# Altium schematic symbol library Connectors_Headers.SchLib: 50 symbols
Pins are listed as number, name and electrical type; pins without a type are passive.

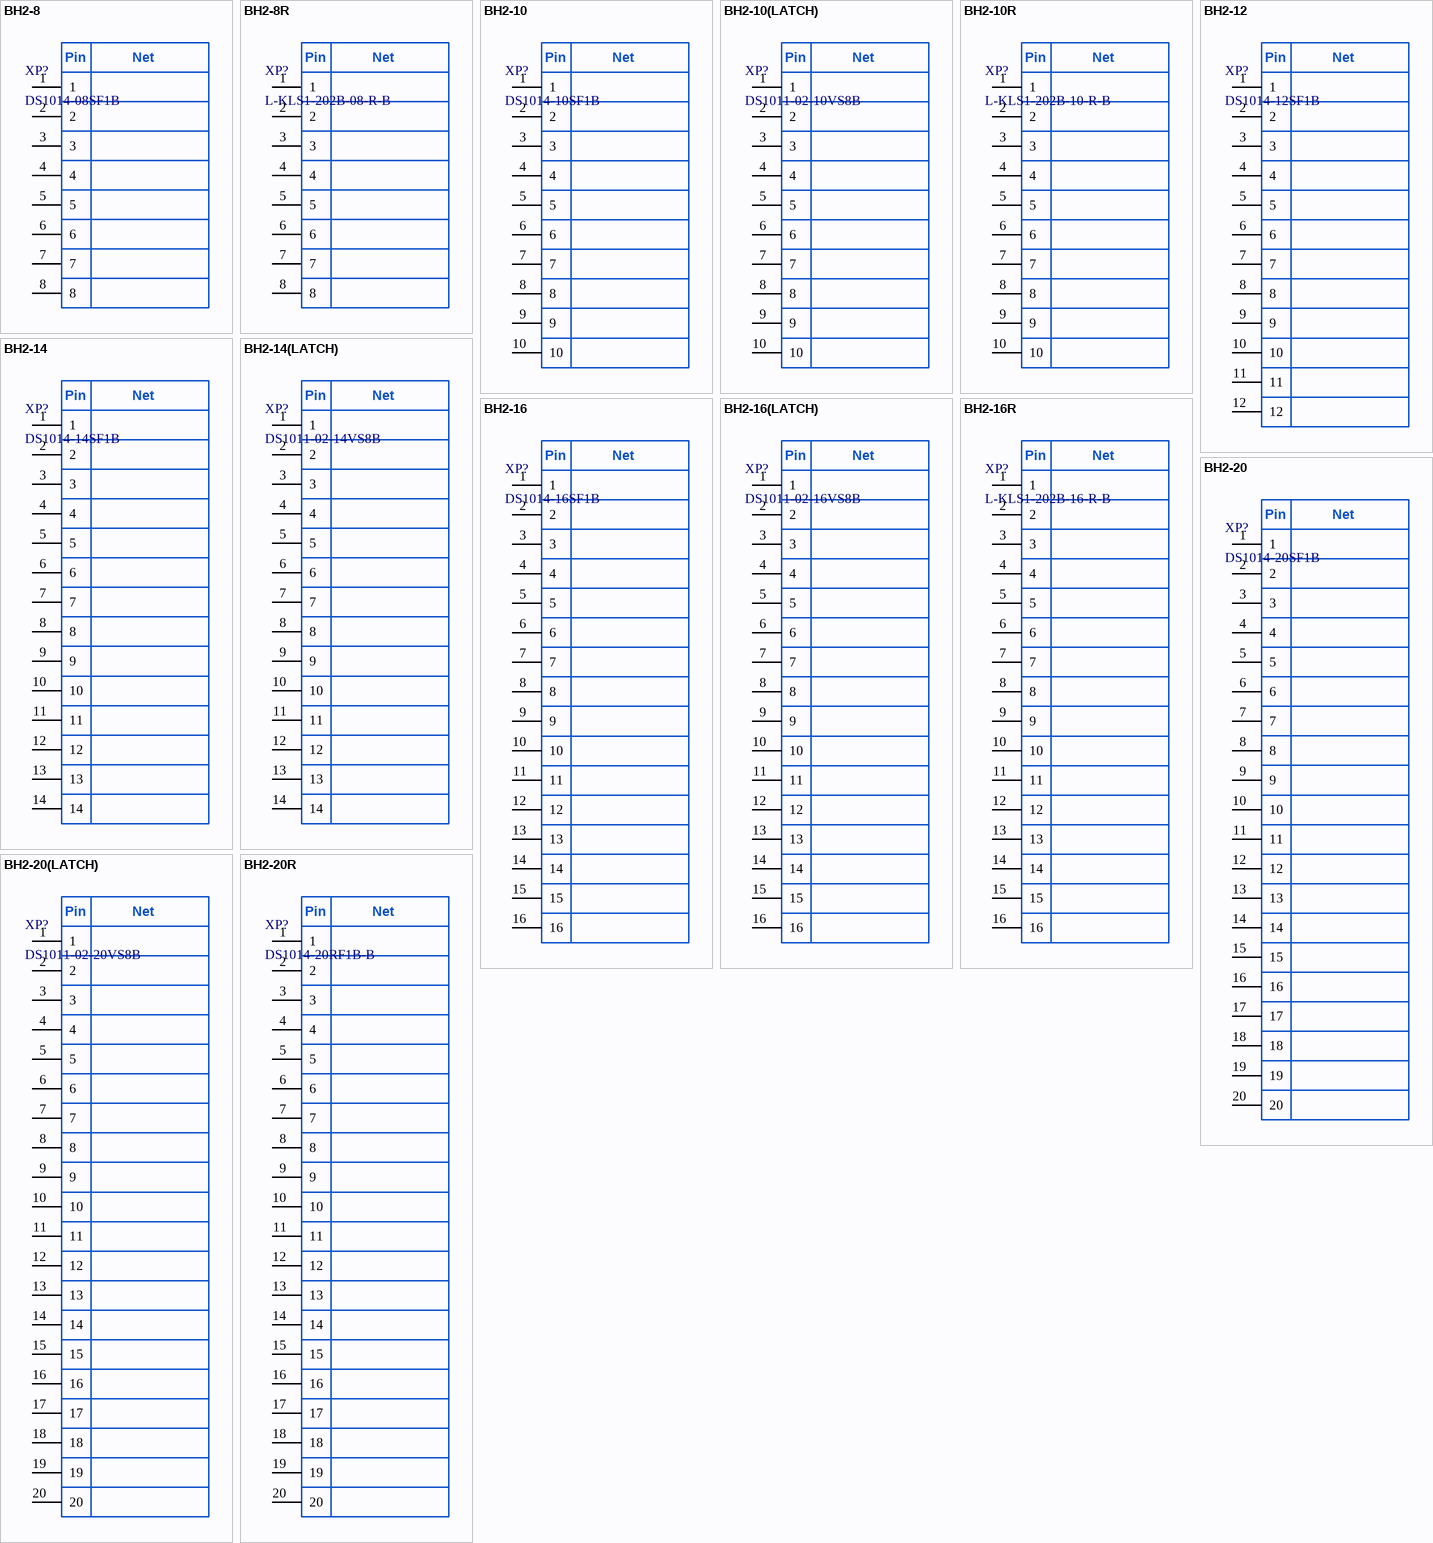
[diagram p0: symbols BH2-8 to BH2-20R]

## BH2-8
designator XP?, comment DS1014-08SF1B
8-pin 2.0 mm Box header elevator type; Manufacturer: Connfly; ItemType: Connector; ItemSubType: Box Header V/T; PartNumber: DS1014-08SF1B; Mounting: THT
footprint BH2-8
pins: 1, 2, 3, 4, 5, 6, 7, 8
text: Pin; Net

## BH2-8R
designator XP?, comment L-KLS1-202B-08-R-B
8-pin 2.0 mm Box header elevator type; Manufacturer: KLS; ItemType: Connector; ItemSubType: Box Header, R/A; PartNumber: L-KLS1-202B-08-R-B; Mounting: THT
footprint BH2-08R
pins: 1, 2, 3, 4, 5, 6, 7, 8
text: Pin; Net

## BH2-10
designator XP?, comment DS1014-10SF1B
10-pin 2.0 mm Box header elevator type; Manufacturer: Connfly; ItemType: Connector; ItemSubType: Box Header V/T; PartNumber: DS1014-10SF1B; Mounting: THT
footprint BH2-10
pins: 1, 2, 3, 4, 5, 6, 7, 8, 9, 10
text: Pin; Net

## BH2-10(LATCH)
designator XP?, comment DS1011-02-10VS8B
10-pin 2.0 mm Box header elevator type; Manufacturer: Connfly; ItemType: Connector; ItemSubType: Box Header V/T; PartNumber: DS1011-02-10VS8B; Mounting: THT
footprint DS1011-02-10VS8B_CLOSE
footprint DS1011-02-10VS8B_OPEN
footprint DS1011-02-10VS8B_WITH_BH2_08
pins: 1, 2, 3, 4, 5, 6, 7, 8, 9, 10
text: Pin; Net

## BH2-10R
designator XP?, comment L-KLS1-202B-10-R-B
10-pin 2.0 mm Box header elevator type; Manufacturer: KLS; ItemType: Connector; ItemSubType: Box Header, R/A; PartNumber: L-KLS1-202B-10-R-B; Mounting: THT
footprint BH2-10R
pins: 1, 2, 3, 4, 5, 6, 7, 8, 9, 10
text: Pin; Net

## BH2-12
designator XP?, comment DS1014-12SF1B
12-pin 2.0 mm Box header elevator type; Manufacturer: Connfly; ItemType: Connector; ItemSubType: Box Header V/T; PartNumber: DS1014-12SF1B; Mounting: THT
footprint BH2-12
pins: 1, 2, 3, 4, 5, 6, 7, 8, 9, 10, 11, 12
text: Pin; Net

## BH2-14
designator XP?, comment DS1014-14SF1B
14-pin 2.0 mm Box header elevator type; Manufacturer: Connfly; ItemType: Connector; ItemSubType: Box Header V/T; PartNumber: DS1014-14SF1B; Mounting: THT
footprint BH2-14
pins: 1, 2, 3, 4, 5, 6, 7, 8, 9, 10, 11, 12, 13, 14
text: Pin; Net

## BH2-14(LATCH)
designator XP?, comment DS1011-02-14VS8B
14-pin 2.0 mm Box header elevator type; Manufacturer: Connfly; ItemType: Connector; ItemSubType: Box Header V/T; PartNumber: DS1011-02-14VS8B; Mounting: THT
footprint DS1011-02-14VS8B_CLOSE
footprint DS1011-02-14VS8B_OPEN
pins: 1, 2, 3, 4, 5, 6, 7, 8, 9, 10, 11, 12, 13, 14
text: Pin; Net

## BH2-16
designator XP?, comment DS1014-16SF1B
16-pin 2.0 mm Box header elevator type; Manufacturer: Connfly; ItemType: Connector; ItemSubType: Box Header V/T; PartNumber: DS1014-16SF1B; Mounting: THT
footprint BH2-16
pins: 1, 2, 3, 4, 5, 6, 7, 8, 9, 10, 11, 12, 13, 14, 15, 16
text: Pin; Net

## BH2-16(LATCH)
designator XP?, comment DS1011-02-16VS8B
16-pin 2.0 mm Box header elevator type; Manufacturer: Connfly; ItemType: Connector; ItemSubType: Box Header V/T; PartNumber: DS1011-02-16VS8B; Mounting: THT
footprint DS1011-02-16VS8B_CLOSE
footprint DS1011-02-16VS8B_OPEN
pins: 1, 2, 3, 4, 5, 6, 7, 8, 9, 10, 11, 12, 13, 14, 15, 16
text: Pin; Net

## BH2-16R
designator XP?, comment L-KLS1-202B-16-R-B
16-pin 2.0 mm Box header elevator type; Manufacturer: KLS; ItemType: Connector; ItemSubType: Box Header, R/A; PartNumber: L-KLS1-202B-16-R-B; Mounting: THT
footprint BH2-16R
pins: 1, 2, 3, 4, 5, 6, 7, 8, 9, 10, 11, 12, 13, 14, 15, 16
text: Pin; Net

## BH2-20
designator XP?, comment DS1014-20SF1B
20-pin 2.0 mm Box header elevator type; Manufacturer: Connfly; AltManufacturer1: KLS; ItemType: Connector; ItemSubType: Box Header V/T; Alternative1: L-KLS1-202B-20-S-B; PartNumber: DS1014-20SF1B; Mounting: THT
footprint BH2-20
pins: 1, 2, 3, 4, 5, 6, 7, 8, 9, 10, 11, 12, 13, 14, 15, 16, 17, 18, 19, 20
text: Pin; Net

## BH2-20(LATCH)
designator XP?, comment DS1011-02-20VS8B
20-pin 2.0 mm Box header elevator type; Manufacturer: Connfly; ItemType: Connector; ItemSubType: Box Header V/T; PartNumber: DS1011-02-20VS8B; Mounting: THT
footprint DS1011-02-20VS8B_CLOSE
footprint DS1011-02-20VS8B_OPEN
pins: 1, 2, 3, 4, 5, 6, 7, 8, 9, 10, 11, 12, 13, 14, 15, 16, 17, 18, 19, 20
text: Pin; Net

## BH2-20R
designator XP?, comment DS1014-20RF1B-B
20-pin 2.0 mm Box header elevator type; Manufacturer: Connfly; ItemType: Connector; ItemSubType: Box Header, R/A; PartNumber: DS1014-20RF1B-B; Mounting: THT
footprint BH2-20R
pins: 1, 2, 3, 4, 5, 6, 7, 8, 9, 10, 11, 12, 13, 14, 15, 16, 17, 18, 19, 20
text: Pin; Net

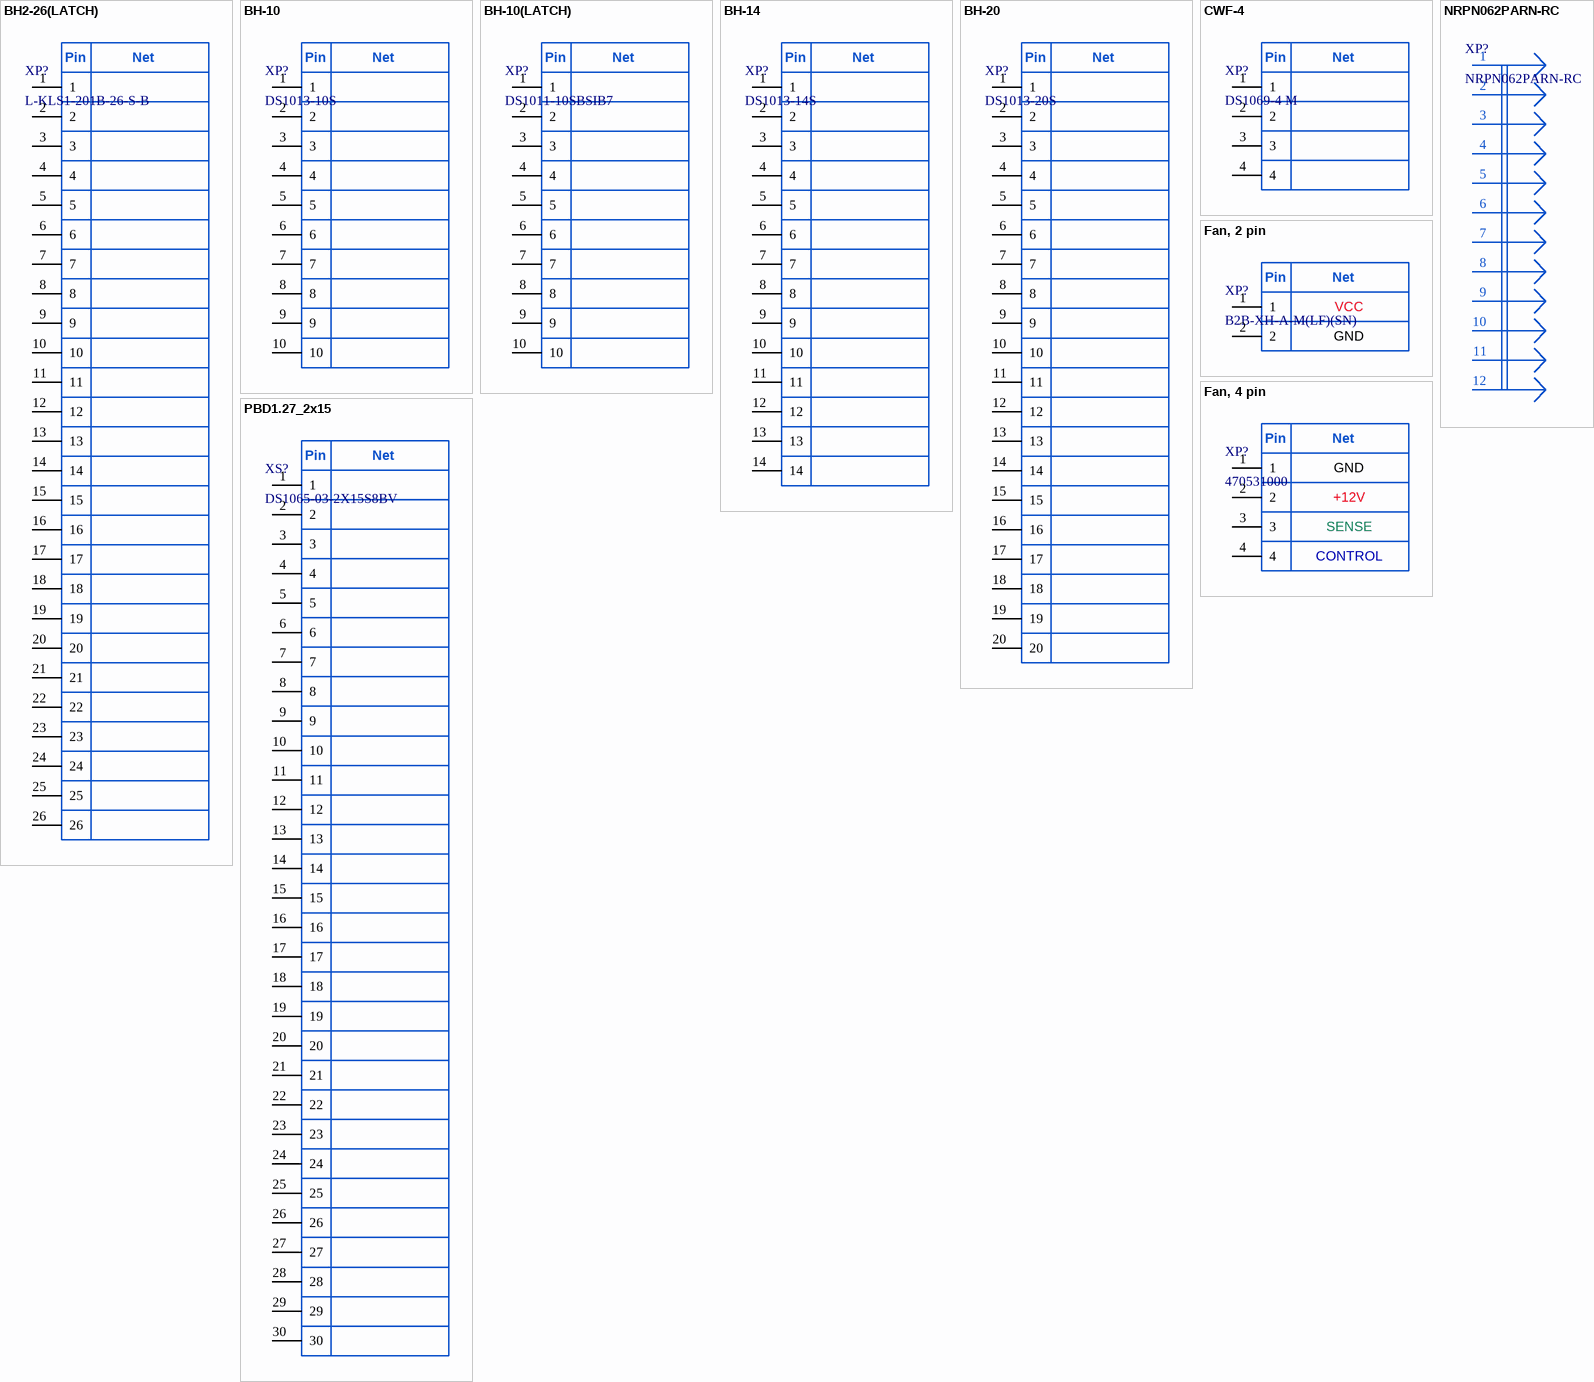
[diagram p1: symbols BH2-26(LATCH) to PBD1.27_2x15]

## BH2-26(LATCH)
designator XP?, comment L-KLS1-201B-26-S-B
26-pin 2.0 mm Box header elevator type; Manufacturer: KLS; ItemType: Connector; ItemSubType: Box Header V/T; PartNumber: L-KLS1-201B-26-S-B; Mounting: THT
footprint L-KLS1-201B-26-S-B_CLOSE
footprint L-KLS1-201B-26-S-B_OPEN
pins: 1, 2, 3, 4, 5, 6, 7, 8, 9, 10, 11, 12, 13, 14, 15, 16, 17, 18, 19, 20, 21, 22, 23, 24, 25, 26
text: Pin; Net

## BH-10
designator XP?, comment DS1013-10S
10-pin 2.54 mm Box header elevator type; Manufacturer: Connfly; ItemType: Connector; ItemSubType: Box Header V/T; PartNumber: DS1013-10S; Mounting: THT
footprint BH-10 (DS1013-10S CONNFLY)
pins: 1, 2, 3, 4, 5, 6, 7, 8, 9, 10
text: Pin; Net

## BH-10(LATCH)
designator XP?, comment DS1011-10SBSIB7
10-pin 2.54 mm Box header elevator type; Manufacturer: Connfly; ItemType: Connector; ItemSubType: Box Header V/T; PartNumber: DS1011-10SBSIB7; Mounting: THT
footprint DS1011-10SBSIB7_OPEN (DS1011-10S CONNFLY)
footprint DS1011-10SBSIB7_CLOSE (DS1011-10S CONNFLY)
pins: 1, 2, 3, 4, 5, 6, 7, 8, 9, 10
text: Pin; Net

## BH-14
designator XP?, comment DS1013-14S
14-pin 2.54 mm Box header elevator type; Manufacturer: Connfly; ItemType: Connector; ItemSubType: Box Header V/T; PartNumber: DS1013-14S; Mounting: THT
footprint BH-14
pins: 1, 2, 3, 4, 5, 6, 7, 8, 9, 10, 11, 12, 13, 14
text: Pin; Net

## BH-20
designator XP?, comment DS1013-20S
20-pin 2.54 mm Box header elevator type; Manufacturer: Connfly; ItemType: Connector; ItemSubType: Box Header V/T; PartNumber: DS1013-20S; Mounting: THT
footprint BH-20
pins: 1, 2, 3, 4, 5, 6, 7, 8, 9, 10, 11, 12, 13, 14, 15, 16, 17, 18, 19, 20
text: Pin; Net

## CWF-4
designator XP?, comment DS1069-4 M
4-pin connector 2.5mm XH Type; Manufacturer: Connfly; PartNumber: DS1069-4 M; ItemType: Connector; ItemSubType: XH; Mounting: THT
footprint CWF-4
pins: 1, 2, 3, 4
text: Pin; Net

## Fan, 2 pin
designator XP?, comment B2B-XH-A-M(LF)(SN)
JST XH 2.5mm; ItemType: Connector; ItemSubType: Fan; PartNumber: B2B-XH-A-M(LF)(SN); Manufacturer: JST; Mounting: THT
footprint B2B-XH-AM
pins: 1, 2
text: Pin; Net; VCC; GND

## Fan, 4 pin
designator XP?, comment 470531000
KK 254 Vertical Header, with Friction Lock, 4 Circuits, Length 3.50mm; Manufacturer: Molex; ItemType: Connector; ItemSubType: Fan; PartNumber: 470531000; Mounting: THT
footprint 0470531000
pins: 1, 2, 3, 4
text: Pin; Net; GND; +12V; SENSE; CONTROL

## NRPN062PARN-RC
designator XP?
12-pin 2.00 mm Male Header V/T Type; Manufacturer: Sullins Connector Solutions; ItemType: Connector; ItemSubType: Pin Header V/T; PartNumber: NRPN062PARN-RC; Mounting: THT
footprint NRPN062PARN-RC (.079” [2.00 mm] Contact Centers Right Angle)
pins: 1, 2, 3, 4, 5, 6, 7, 8, 9, 10, 11, 12

## PBD1.27_2x15
designator XS?, comment DS1065-03-2X15S8BV
1.27mm Pin Socket V/T Type Double Row; Manufacturer: Connfly; ItemType: Connector; ItemSubType: Pin Header V/T; PartNumber: DS1065-03-2X15S8BV; Mounting: THT
footprint DS1065-03-2X15S8BV (Female header, pitch 1.27mm, Vertical)
pins: 1, 2, 3, 4, 5, 6, 7, 8, 9, 10, 11, 12, 13, 14, 15, 16, 17, 18, 19, 20, 21, 22, 23, 24, 25, 26, 27, 28, 29, 30
text: Pin; Net

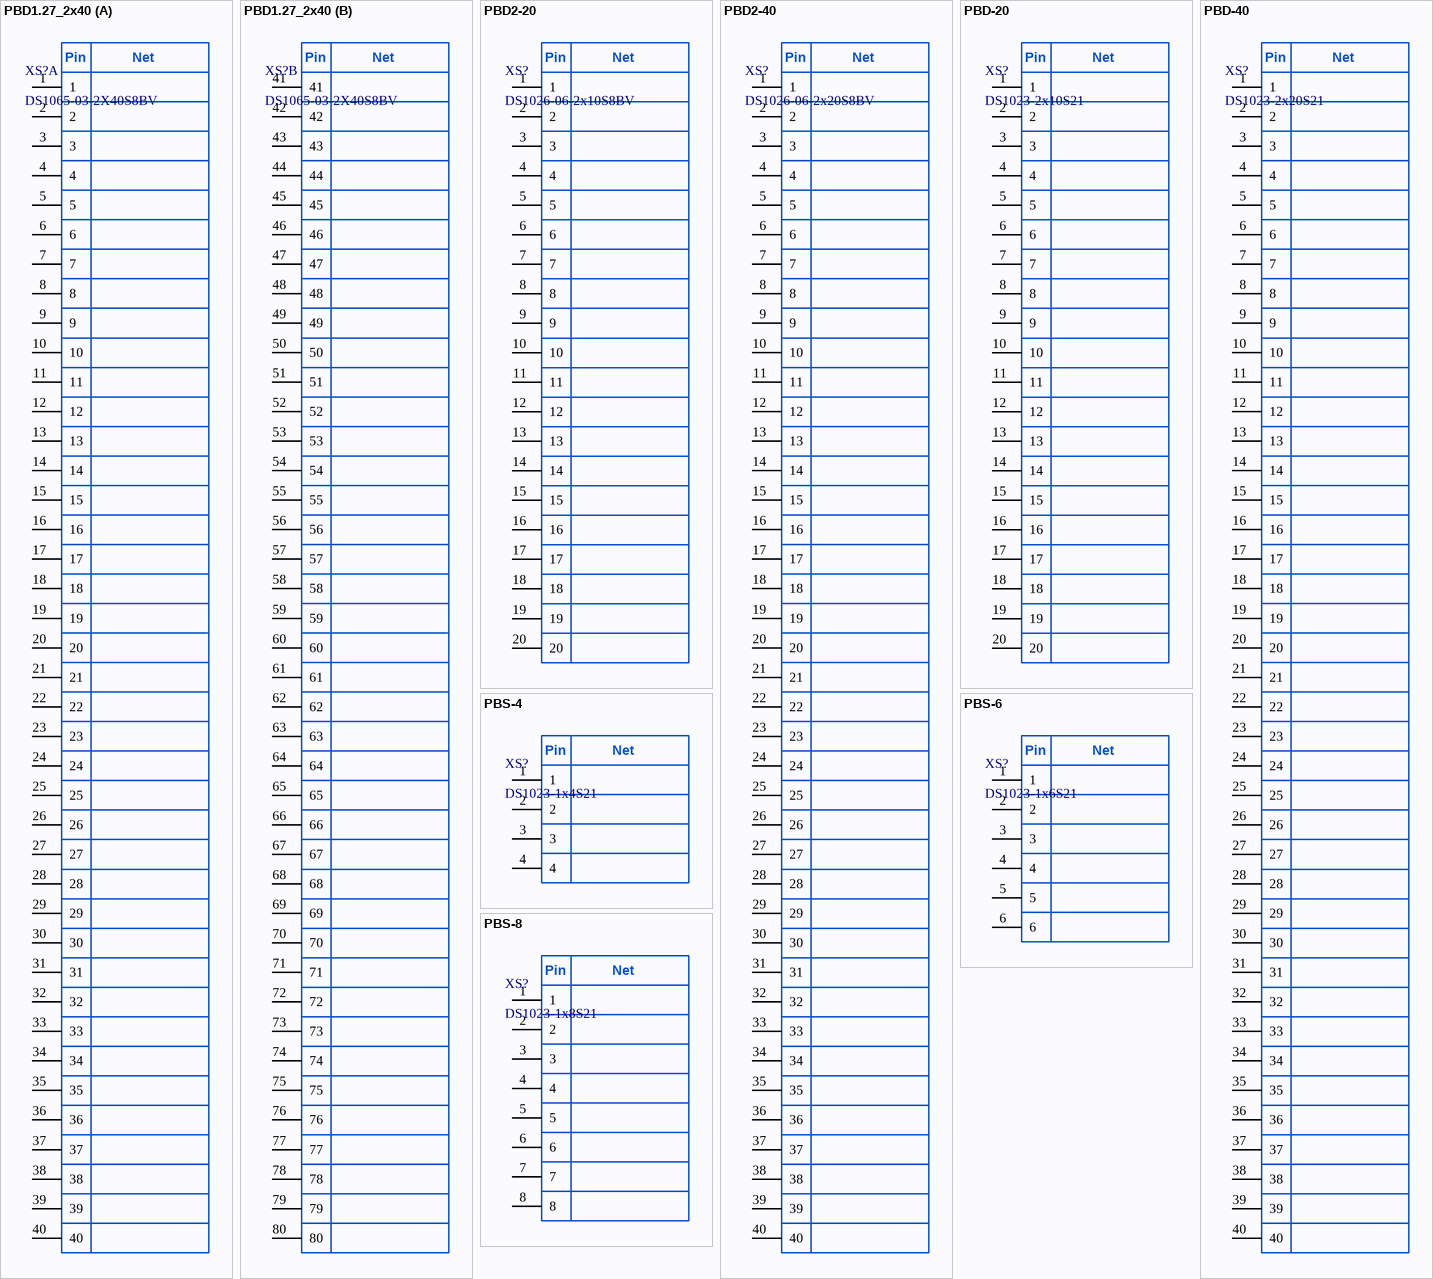
[diagram p2: symbols PBD1.27_2x40 to PBS-8]

## PBD1.27_2x40
designator XS?, comment DS1065-03-2X40S8BV
1.27mm Pin Socket V/T Type Double Row; Manufacturer: Connfly; ItemType: Connector; ItemSubType: Pin Header V/T; PartNumber: DS1065-03-2X40S8BV; Mounting: THT
footprint DS1065-03-2X40S8BV (Female header, pitch 1.27mm, Vertical)
part A pins: 1, 2, 3, 4, 5, 6, 7, 8, 9, 10, 11, 12, 13, 14, 15, 16, 17, 18, 19, 20, 21, 22, 23, 24, 25, 26, 27, 28, 29, 30, 31, 32, 33, 34, 35, 36, 37, 38, 39, 40
part B pins: 41, 42, 43, 44, 45, 46, 47, 48, 49, 50, 51, 52, 53, 54, 55, 56, 57, 58, 59, 60, 61, 62, 63, 64, 65, 66, 67, 68, 69, 70, 71, 72, 73, 74, 75, 76, 77, 78, 79, 80
part A text: Pin; Net
part B text: Pin; Net

## PBD2-20
designator XS?, comment DS1026-06-2x10S8BV
20-pin 2.00 mm Female Socket V/T Type; Manufacturer: Connfly; ItemType: Connector; ItemSubType: Box Header V/T; PartNumber: DS1026-06-2x10S8BV; Mounting: THT
footprint DS1026-06-2x10S8BV
pins: 1, 2, 3, 4, 5, 6, 7, 8, 9, 10, 11, 12, 13, 14, 15, 16, 17, 18, 19, 20
text: Pin; Net

## PBD2-40
designator XS?, comment DS1026-06-2x20S8BV
40-pin 2.00 mm Female Socket V/T Type; Manufacturer: Connfly; ItemType: Connector; ItemSubType: Box Header V/T; PartNumber: DS1026-06-2x20S8BV; Mounting: THT
footprint DS1026-06-2x20S8BV
pins: 1, 2, 3, 4, 5, 6, 7, 8, 9, 10, 11, 12, 13, 14, 15, 16, 17, 18, 19, 20, 21, 22, 23, 24, 25, 26, 27, 28, 29, 30, 31, 32, 33, 34, 35, 36, 37, 38, 39, 40
text: Pin; Net

## PBD-20
designator XS?, comment DS1023-2x10S21
20-pin 2.54 mm Female Socket V/T Type; Manufacturer: Connfly; ItemType: Connector; ItemSubType: Box Header V/T; Alternative1: DS1023-2x10SF11; PartNumber: DS1023-2x10S21; AltManufacturer1: Connector; Mounting: THT
footprint DS1023-2x10S21 (PDB-20 connector)
pins: 1, 2, 3, 4, 5, 6, 7, 8, 9, 10, 11, 12, 13, 14, 15, 16, 17, 18, 19, 20
text: Pin; Net

## PBD-40
designator XS?, comment DS1023-2x20S21
40-pin 2.54 mm Female Socket V/T Type; Manufacturer: Connfly; ItemType: Connector; ItemSubType: Box Header V/T; Alternative1: DS1023-2x10SF11; PartNumber: DS1023-2x20S21; AltManufacturer1: Connfly; Mounting: THT
footprint DS1023-2x20S21 (PDB-40 connector)
pins: 1, 2, 3, 4, 5, 6, 7, 8, 9, 10, 11, 12, 13, 14, 15, 16, 17, 18, 19, 20, 21, 22, 23, 24, 25, 26, 27, 28, 29, 30, 31, 32, 33, 34, 35, 36, 37, 38, 39, 40
text: Pin; Net

## PBS-4
designator XS?, comment DS1023-1x4S21
4-pin 2.54 mm Box header, H = 8.5mm; Manufacturer: Connfly; ItemType: Connector; ItemSubType: Header V/T; PartNumber: DS1023-1x4S21; Mounting: THT
footprint DS1023-1x4S21 (PBS-4 connector)
pins: 1, 2, 3, 4
text: Pin; Net

## PBS-6
designator XS?, comment DS1023-1x6S21
6-pin 2.54 mm Box header, H = 8.5mm; Manufacturer: Connfly; ItemType: Connector; ItemSubType: Header V/T; PartNumber: DS1023-1x6S21; Mounting: THT
footprint DS1023-1x6S21 (PBS-6 connector)
pins: 1, 2, 3, 4, 5, 6
text: Pin; Net

## PBS-8
designator XS?, comment DS1023-1x8S21
8-pin 2.54 mm Box header, H = 8.5mm; Manufacturer: Connfly; ItemType: Connector; ItemSubType: Header V/T; PartNumber: DS1023-1x8S21; Mounting: THT
footprint DS1023-1x8S21 (PBS-8 connector)
pins: 1, 2, 3, 4, 5, 6, 7, 8
text: Pin; Net

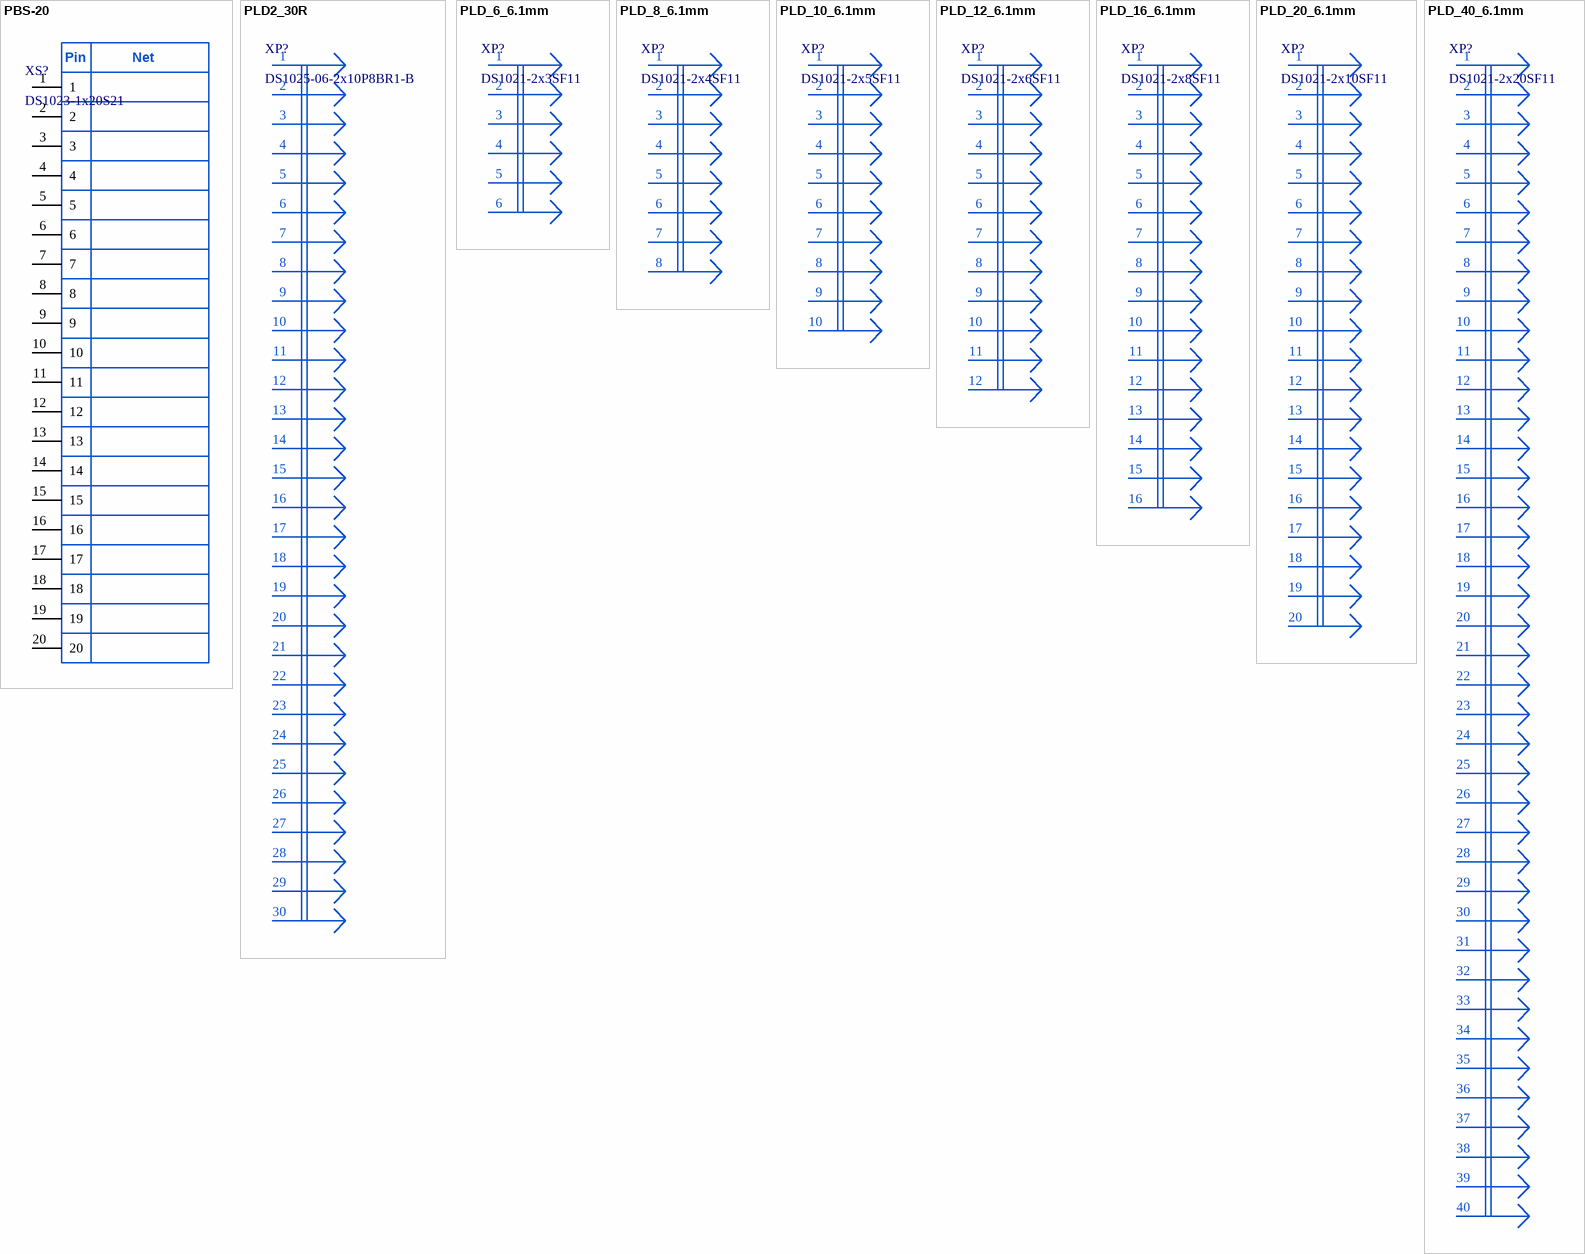
[diagram p3: symbols PBS-20 to PLD_40_6.1mm]

## PBS-20
designator XS?, comment DS1023-1x20S21
20-pin 2.54 mm Box header, H = 8.5mm; Manufacturer: Connfly; ItemType: Connector; ItemSubType: Header V/T; PartNumber: DS1023-1x20S21; Mounting: THT
footprint DS1023-1x20S21 (PBS-20 connector)
pins: 1, 2, 3, 4, 5, 6, 7, 8, 9, 10, 11, 12, 13, 14, 15, 16, 17, 18, 19, 20
text: Pin; Net

## PLD2_30R
designator XP?, comment DS1025-06-2x10P8BR1-B
30-pin 2.00 mm Male Header R/A Type; Manufacturer: Connfly; ItemType: Connector; ItemSubType: Pin Header R/A; PartNumber: DS1025-06-2x10P8BR1-B; Mounting: THT
footprint DS1025-06-2x10P8BR1-B
pins: 1, 2, 3, 4, 5, 6, 7, 8, 9, 10, 11, 12, 13, 14, 15, 16, 17, 18, 19, 20, 21, 22, 23, 24, 25, 26, 27, 28, 29, 30

## PLD_6_6.1mm
designator XP?, comment DS1021-2x3SF11
6-pin 2.54 mm Male Header V/T Type; Manufacturer: Connfly; ItemType: Connector; ItemSubType: Pin Header V/T; PartNumber: DS1021-2x3SF11; Mounting: THT
footprint DS1021-2x3SF11 (PLD-6 Connector, A = 3mm, B = 6.1mm)
pins: 1, 2, 3, 4, 5, 6

## PLD_8_6.1mm
designator XP?, comment DS1021-2x4SF11
10-pin 2.54 mm Male Header V/T Type; Manufacturer: Connfly; ItemType: Connector; ItemSubType: Pin Header V/T; PartNumber: DS1021-2x4SF11; Mounting: THT
footprint DS1021-2x4SF11 (PLD-8 Connector, A = 3mm, B = 6.1mm)
pins: 1, 2, 3, 4, 5, 6, 7, 8

## PLD_10_6.1mm
designator XP?, comment DS1021-2x5SF11
10-pin 2.54 mm Male Header V/T Type; Manufacturer: Connfly; ItemType: Connector; ItemSubType: Pin Header V/T; PartNumber: DS1021-2x5SF11; Mounting: THT
footprint DS1021-2x5SF11 (PLD-10 Connector, A = 3mm, B = 6.1mm)
pins: 1, 2, 3, 4, 5, 6, 7, 8, 9, 10

## PLD_12_6.1mm
designator XP?, comment DS1021-2x6SF11
12-pin 2.54 mm Male Header V/T Type; Manufacturer: Connfly; ItemType: Connector; ItemSubType: Pin Header V/T; PartNumber: DS1021-2x6SF11; Mounting: THT
footprint DS1021-2x6SF11 (PLD-12 Connector, A = 3mm, B = 6.1mm)
pins: 1, 2, 3, 4, 5, 6, 7, 8, 9, 10, 11, 12

## PLD_16_6.1mm
designator XP?, comment DS1021-2x8SF11
12-pin 2.54 mm Male Header V/T Type; Manufacturer: Connfly; ItemType: Connector; ItemSubType: Pin Header V/T; PartNumber: DS1021-2x8SF11; Mounting: THT
footprint DS1021-2x8SF11 (PLD-16 Connector, A = 3mm, B = 6.1mm)
pins: 1, 2, 3, 4, 5, 6, 7, 8, 9, 10, 11, 12, 13, 14, 15, 16

## PLD_20_6.1mm
designator XP?, comment DS1021-2x10SF11
20-pin 2.54 mm Male Header V/T Type; Manufacturer: Connfly; ItemType: Connector; ItemSubType: Pin Header V/T; PartNumber: DS1021-2x10SF11; Mounting: THT
footprint DS1021-2x10SF11 (PLD-20 Connector)
pins: 1, 2, 3, 4, 5, 6, 7, 8, 9, 10, 11, 12, 13, 14, 15, 16, 17, 18, 19, 20

## PLD_40_6.1mm
designator XP?, comment DS1021-2x20SF11
40-pin 2.54 mm Male Header V/T Type; Manufacturer: Connfly; ItemType: Connector; ItemSubType: Pin Header V/T; PartNumber: DS1021-2x20SF11; Mounting: THT
footprint DS1021-2x20SF11 (PLD-40 Connector)
pins: 1, 2, 3, 4, 5, 6, 7, 8, 9, 10, 11, 12, 13, 14, 15, 16, 17, 18, 19, 20, 21, 22, 23, 24, 25, 26, 27, 28, 29, 30, 31, 32, 33, 34, 35, 36, 37, 38, 39, 40

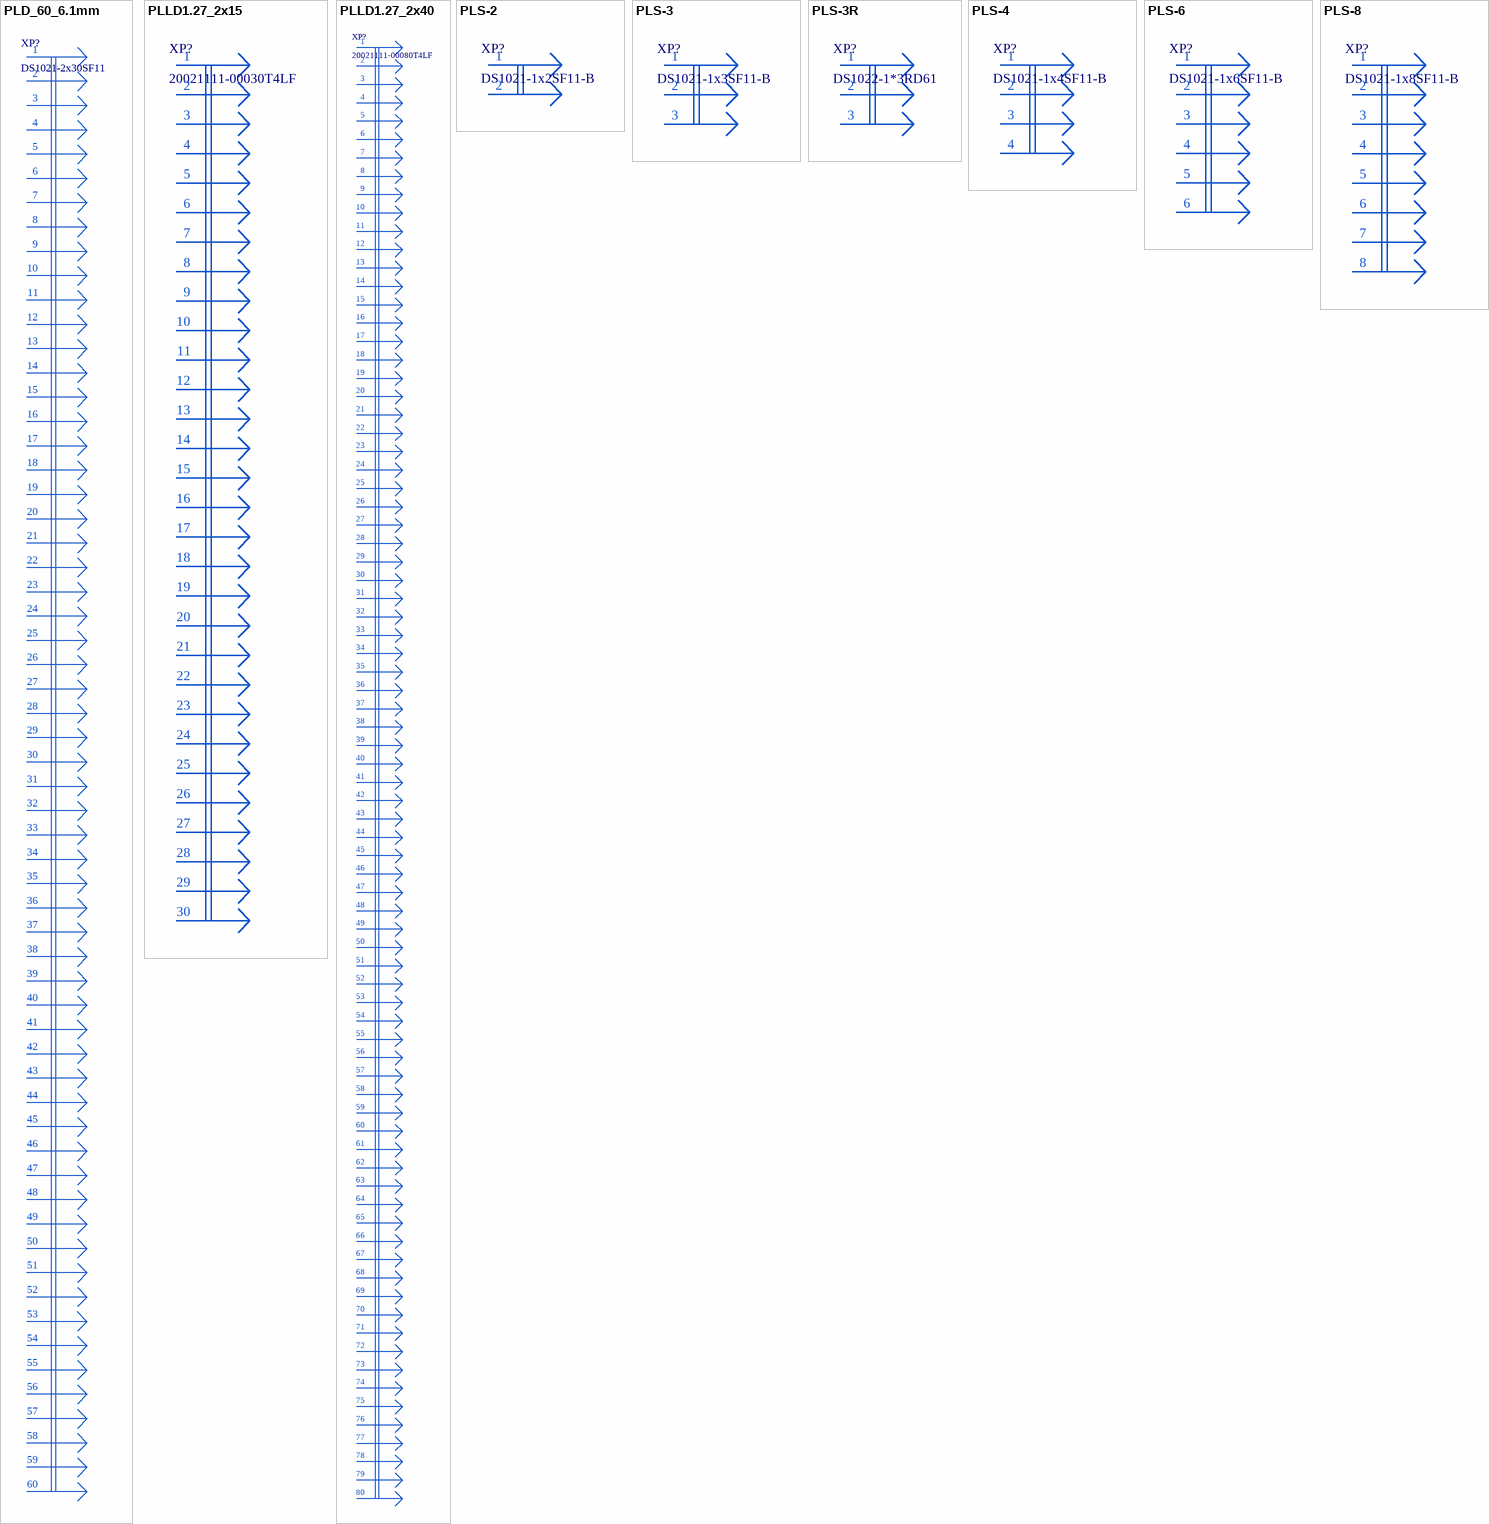
[diagram p4: symbols PLD_60_6.1mm to PLS-8]

## PLD_60_6.1mm
designator XP?, comment DS1021-2x30SF11
60-pin 2.54 mm Male Header V/T Type; Manufacturer: Connfly; ItemType: Connector; ItemSubType: Pin Header V/T; PartNumber: DS1021-2x30SF11; Mounting: THT
footprint DS1021-2x30SF11 (PLD-60 Connector, A = 3mm, B = 6.1mm)
pins: 1, 2, 3, 4, 5, 6, 7, 8, 9, 10, 11, 12, 13, 14, 15, 16, 17, 18, 19, 20, 21, 22, 23, 24, 25, 26, 27, 28, 29, 30, 31, 32, 33, 34, 35, 36, 37, 38, 39, 40, 41, 42, 43, 44, 45, 46, 47, 48, 49, 50, 51, 52, 53, 54, 55, 56, 57, 58, 59, 60

## PLLD1.27_2x15
designator XP?, comment 20021111-00030T4LF
1.27mm Pin Header V/T Type Double Row; Manufacturer: Amphenol; ItemType: Connector; PartNumber: 20021111-00030T4LF; ItemSubType: Pin Header V/T; Mounting: THT
footprint 20021111-00030T4LF (Header 2x30 1.27 mm, VT TH)
pins: 1, 2, 3, 4, 5, 6, 7, 8, 9, 10, 11, 12, 13, 14, 15, 16, 17, 18, 19, 20, 21, 22, 23, 24, 25, 26, 27, 28, 29, 30

## PLLD1.27_2x40
designator XP?, comment 20021111-00080T4LF
1.27mm Pin Header V/T Type Double Row; Manufacturer: Amphenol; AltManufacturer1: Connfly; ItemType: Connector; Alternative1: DS1031-06-2X40P8BV54-3A; PartNumber: 20021111-00080T4LF; ItemSubType: Pin Header V/T; Mounting: THT
footprint 20021111-00080T4LF (Header 2x40 1.27 mm, VT TH)
pins: 1, 2, 3, 4, 5, 6, 7, 8, 9, 10, 11, 12, 13, 14, 15, 16, 17, 18, 19, 20, 21, 22, 23, 24, 25, 26, 27, 28, 29, 30, 31, 32, 33, 34, 35, 36, 37, 38, 39, 40, 41, 42, 43, 44, 45, 46, 47, 48, 49, 50, 51, 52, 53, 54, 55, 56, 57, 58, 59, 60, 61, 62, 63, 64, 65, 66, 67, 68, 69, 70, 71, 72, 73, 74, 75, 76, 77, 78, 79, 80

## PLS-2
designator XP?, comment DS1021-1x2SF11-B
2.54mm Pin Header V/T Type Single Row; Manufacturer: Connfly; ItemType: Connector; PartNumber: DS1021-1x2SF11-B; ItemSubType: Pin Header V/T; Mounting: THT
footprint DS1021-1X2SF11 (PLS-4 Connector, A = 3mm, B = 6.1mm)
pins: 1, 2

## PLS-3
designator XP?, comment DS1021-1x3SF11-B
2.54mm Pin Header V/T Type Single Row; Manufacturer: Connfly; ItemType: Connector; PartNumber: DS1021-1x3SF11-B; ItemSubType: Pin Header V/T; Mounting: THT
footprint DS1021-1X3SF11 (PLS-4 Connector, A = 3mm, B = 6.1mm)
pins: 1, 2, 3

## PLS-3R
designator XP?, comment DS1022-1*3RD61
2.54mm Pin Header R/A Type Single Row; Manufacturer: Connfly; ItemType: Connector; PartNumber: DS1022-1*3RD61; ItemSubType: Pin Header R/A; Mounting: THT
footprint PLS-3R
pins: 1, 2, 3

## PLS-4
designator XP?, comment DS1021-1x4SF11-B
2.54mm Pin Header V/T Type Single Row; Manufacturer: Connfly; ItemType: Connector; PartNumber: DS1021-1x4SF11-B; ItemSubType: Pin Header V/T; Mounting: THT
footprint DS1021-1X4SF11 (PLS-4 Connector, A = 3mm, B = 6.1mm)
pins: 1, 2, 3, 4

## PLS-6
designator XP?, comment DS1021-1x6SF11-B
2.54mm Pin Header V/T Type Single Row; Manufacturer: Connfly; ItemType: Connector; PartNumber: DS1021-1x6SF11-B; ItemSubType: Pin Header V/T; Mounting: THT
footprint DS1021-1X6SF11 (PLS-6 Connector, A = 3mm, B = 6.1mm)
pins: 1, 2, 3, 4, 5, 6

## PLS-8
designator XP?, comment DS1021-1x8SF11-B
2.54mm Pin Header V/T Type Single Row; Manufacturer: Connfly; ItemType: Connector; PartNumber: DS1021-1x8SF11-B; ItemSubType: Pin Header V/T; Mounting: THT
footprint DS1021-1X8SF11 (PLS-8 Connector, A = 3mm, B = 6.1mm)
pins: 1, 2, 3, 4, 5, 6, 7, 8